# Altium footprint library 74LVC1G08.PcbLib: 1 footprints
Each footprint in its own frame and in the unit in brackets; x right, y up, seen from the top. Pads: shape width x height; smd on the part's side, far side on the other; paste and mask are expansions set on the pad; w line width, h text height; cw(c..) or ccw(c..) is an arc to the next point about the centre after c.
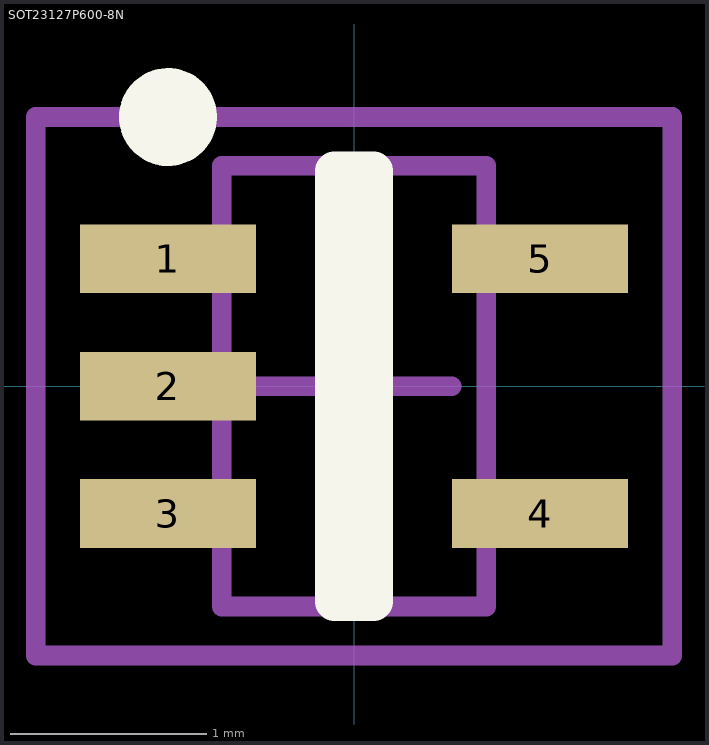
[diagram p0: the footprint, top view; thin cyan lines are the x and y axes]

## SOT23127P600-8N [mm]
height 1
pads (5):
  rect 0.9x0.35 smd: 1(-0.95,0.65) 2(-0.95,0) 3(-0.95,-0.65) 4(0.95,-0.65) 5(0.95,0.65)
Top Overlay:
  circle w0.25: c-0.95,1.375 r0.125
  lines w0.2: -0.1,-1.1 0.1,-1.1 0.1,1.1 -0.1,1.1 -0.1,-1.1
Mechanical 13:
  lines w0.1: -0.675,-1.125 -0.675,1.125 0.675,1.125 0.675,-1.125 -0.675,-1.125
Mechanical 15:
  lines w0.1: -0.5,0 0.5,0 ; 0,-0.5 0,0.5 ; -1.625,-1.375 -1.625,1.375 1.625,1.375 1.625,-1.375 -1.625,-1.375
3D body: height 1, standoff 0.15, extent -0.675,-1.125 0.675,1.125